# Altium footprint library PowerFLAT (6X5).PcbLib: 1 footprints
Each footprint in its own frame and in the unit in brackets; x right, y up, seen from the top. Pads: shape width x height; smd on the part's side, far side on the other; paste and mask are expansions set on the pad; w line width, h text height; cw(c..) or ccw(c..) is an arc to the next point about the centre after c.
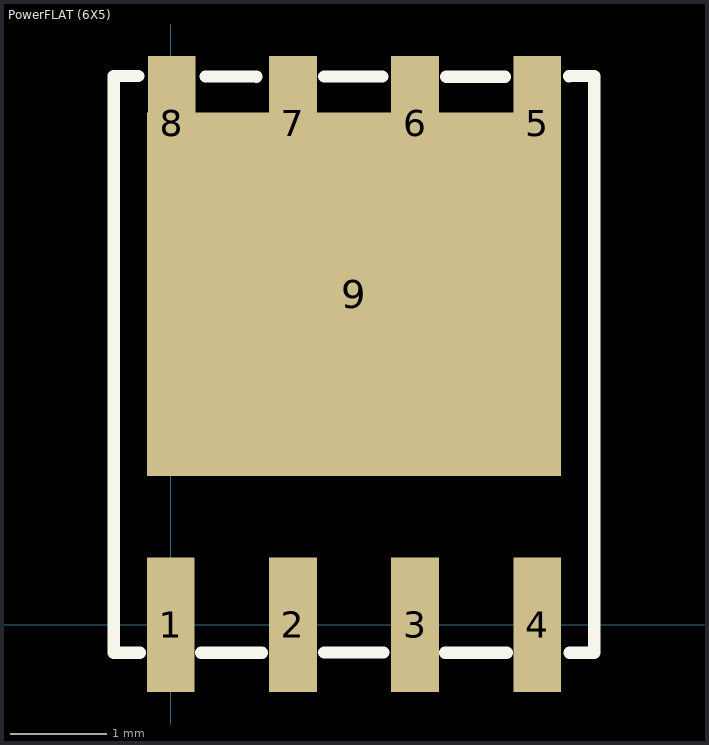
[diagram p0: the footprint, top view; thin cyan lines are the x and y axes]

## PowerFLAT (6X5) [mm]
height 0.93
pads (9):
  rect 0.495x1.4 smd: 1(0,0) 2(1.27,0) 3(2.54,0) 4(3.81,0) 5(3.81,5.221) 6(2.54,5.221) 7(1.27,5.221) 8(0.008,5.221)
  rect 4.305x3.78 smd: 9(1.905,3.44)
TopOverlay:
  lines w0.127: -0.34,5.711 -0.595,5.711 -0.595,-0.289 -0.324,-0.289 -0.322,-0.288 ; 0.312,-0.289 0.947,-0.289 0.949,-0.288 ; 0.358,5.706 0.889,5.706 0.891,5.704 ; 1.596,-0.288 2.211,-0.288 ; 1.596,5.706 2.2,5.706 ; 2.851,-0.289 3.494,-0.289 3.495,-0.288 ; 2.866,5.704 3.476,5.704 3.477,5.706 ; 4.143,5.709 4.145,5.711 4.405,5.711 4.405,-0.289 4.148,-0.289 4.147,-0.288